# Altium footprint library Mechanical.PcbLib: 50 footprints (part 3 of 4)
Each footprint in its own frame and in the unit in brackets; x right, y up, seen from the top. Pads: shape width x height; smd on the part's side, far side on the other; paste and mask are expansions set on the pad; w line width, h text height; cw(c..) or ccw(c..) is an arc to the next point about the centre after c.
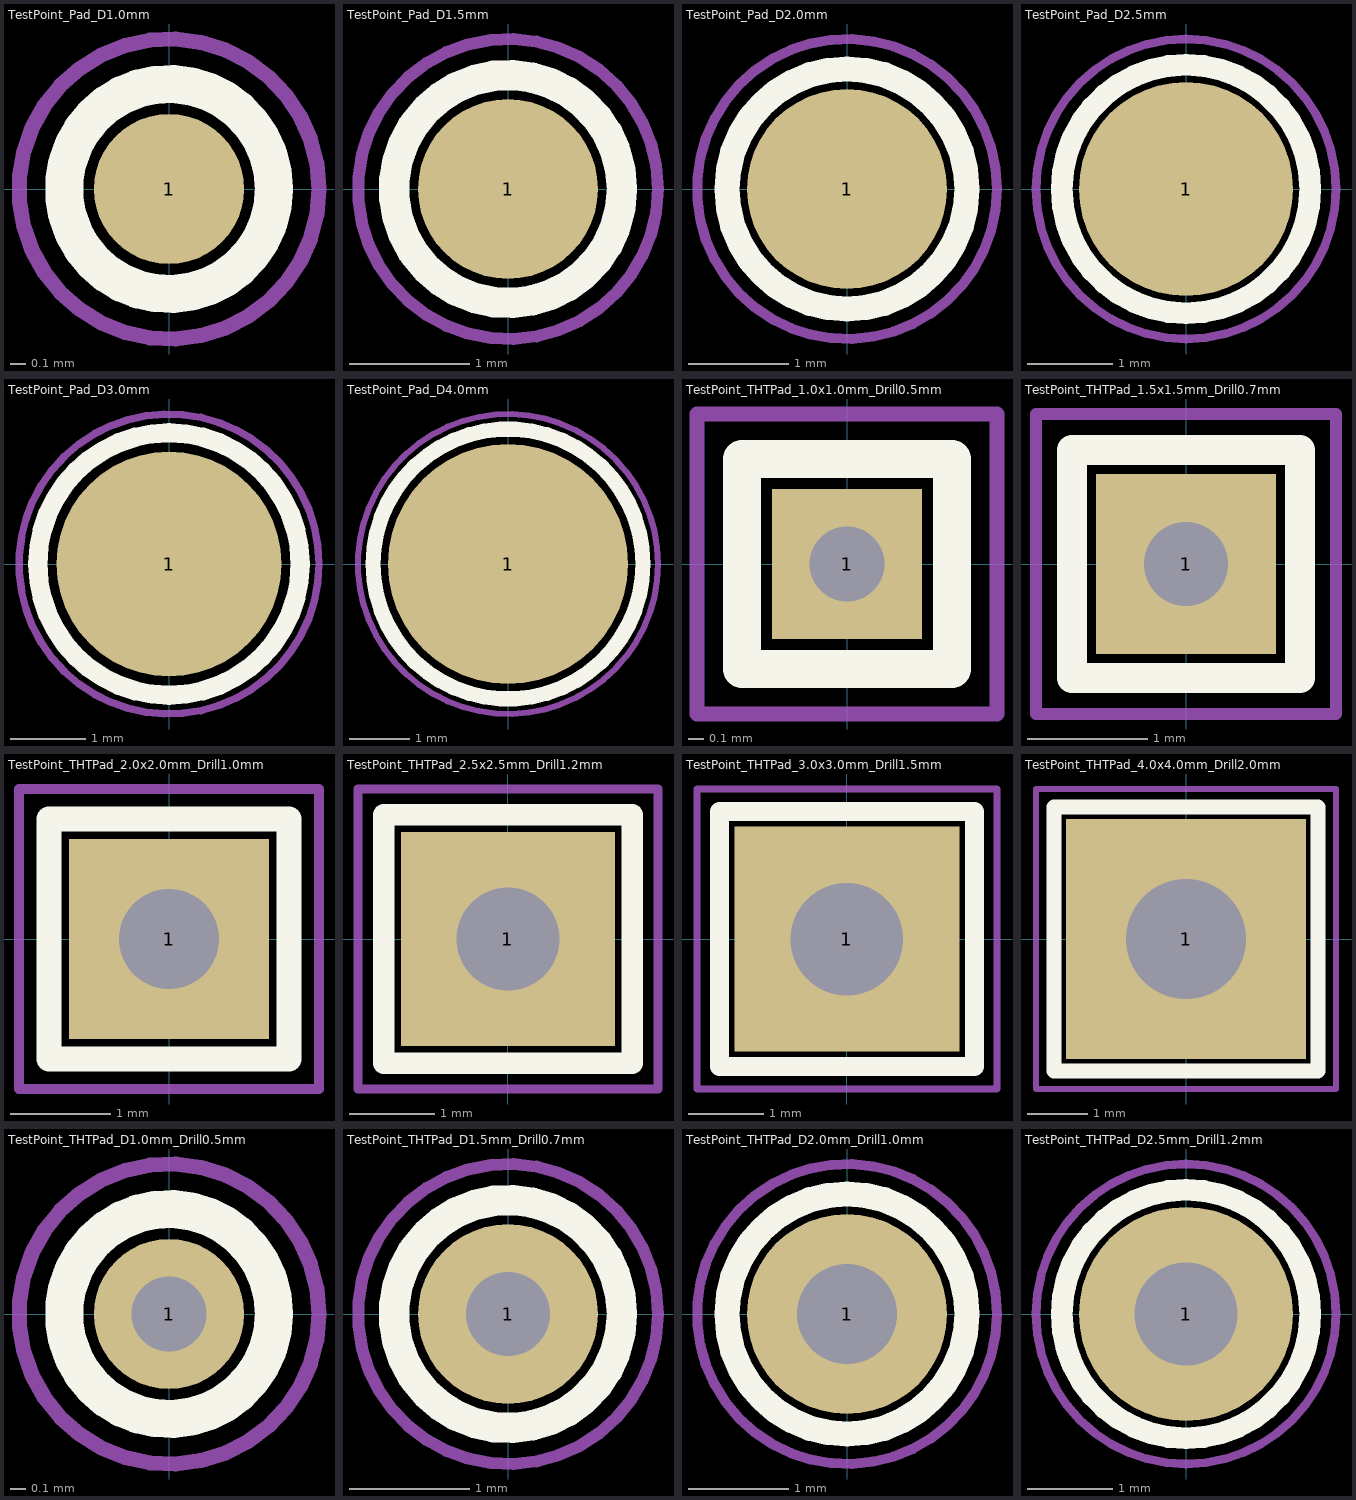
[diagram p2: the footprints below, top view; thin cyan lines are the x and y axes]

## TestPoint_Pad_D1.0mm [mm] "SMD pad as test Point, diameter 1.0mm"
pads (1):
  round 1 smd: 1(0,0)
Top Overlay:
  circle w0.254: c0,0 r0.7
Top Courtyard:
  circle w0.1: c0,0 r1
Top Designator:
  text ".Designator" at -7.63,-0.521 h1.52

## TestPoint_Pad_D1.5mm [mm] "SMD pad as test Point, diameter 1.5mm"
pads (1):
  round 1.5 smd: 1(0,0)
Top Overlay:
  circle w0.254: c0,0 r0.95
Top Courtyard:
  circle w0.1: c0,0 r1.25
Top Designator:
  text ".Designator" at -7.63,-0.521 h1.52

## TestPoint_Pad_D2.0mm [mm] "SMD pad as test Point, diameter 2.0mm"
pads (1):
  round 2 smd: 1(0,0)
Top Overlay:
  circle w0.254: c0,0 r1.2
Top Courtyard:
  circle w0.1: c0,0 r1.5
Top Designator:
  text ".Designator" at -7.63,-0.521 h1.52

## TestPoint_Pad_D2.5mm [mm] "SMD pad as test Point, diameter 2.5mm"
pads (1):
  round 2.5 smd: 1(0,0)
Top Overlay:
  circle w0.254: c0,0 r1.45
Top Courtyard:
  circle w0.1: c0,0 r1.75
Top Designator:
  text ".Designator" at -7.63,-0.521 h1.52

## TestPoint_Pad_D3.0mm [mm] "SMD pad as test Point, diameter 3.0mm"
pads (1):
  round 3 smd: 1(0,0)
Top Overlay:
  circle w0.254: c0,0 r1.75
Top Courtyard:
  circle w0.1: c0,0 r2
Top Designator:
  text ".Designator" at -7.63,-0.521 h1.52

## TestPoint_Pad_D4.0mm [mm] "SMD pad as test Point, diameter 4.0mm"
pads (1):
  round 4 smd: 1(0,0)
Top Overlay:
  circle w0.254: c0,0 r2.25
Top Courtyard:
  circle w0.1: c0,0 r2.5
Top Designator:
  text ".Designator" at -7.63,-0.521 h1.52

## TestPoint_THTPad_1.0x1.0mm_Drill0.5mm [mm] "THT rectangular pad as test Point, square 1.0mm side length, hole diameter 0.5mm"
pads (1):
  rect 1x1 hole 0.5: 1(0,0)
Top Overlay:
  lines w0.254: -0.7,-0.7 0.7,-0.7 0.7,0.7 -0.7,0.7 -0.7,-0.7
Top Courtyard:
  lines w0.1: -1,-1 1,-1 1,1 -1,1 -1,-1
Top Designator:
  text ".Designator" at -7.63,-0.521 h1.52

## TestPoint_THTPad_1.5x1.5mm_Drill0.7mm [mm] "THT rectangular pad as test Point, square 1.5mm side length, hole diameter 0.7mm"
pads (1):
  rect 1.5x1.5 hole 0.7: 1(0,0)
Top Overlay:
  lines w0.254: -0.95,-0.95 0.95,-0.95 0.95,0.95 -0.95,0.95 -0.95,-0.95
Top Courtyard:
  lines w0.1: -1.25,-1.25 1.25,-1.25 1.25,1.25 -1.25,1.25 -1.25,-1.25
Top Designator:
  text ".Designator" at -7.63,-0.521 h1.52

## TestPoint_THTPad_2.0x2.0mm_Drill1.0mm [mm] "THT rectangular pad as test Point, square 2.0mm_Drill1.0mm  side length, hole diameter 1.0mm"
pads (1):
  rect 2x2 hole 1: 1(0,0)
Top Overlay:
  lines w0.254: -1.2,-1.2 1.2,-1.2 1.2,1.2 -1.2,1.2 -1.2,-1.2
Top Courtyard:
  lines w0.1: -1.5,-1.5 1.5,-1.5 1.5,1.5 -1.5,1.5 -1.5,-1.5
Top Designator:
  text ".Designator" at -7.63,-0.521 h1.52

## TestPoint_THTPad_2.5x2.5mm_Drill1.2mm [mm] "THT rectangular pad as test Point, square 2.5mm side length, hole diameter 1.2mm"
pads (1):
  rect 2.5x2.5 hole 1.2: 1(0,0)
Top Overlay:
  lines w0.254: -1.45,-1.45 1.45,-1.45 1.45,1.45 -1.45,1.45 -1.45,-1.45
Top Courtyard:
  lines w0.1: -1.75,-1.75 1.75,-1.75 1.75,1.75 -1.75,1.75 -1.75,-1.75
Top Designator:
  text ".Designator" at -7.63,-0.521 h1.52

## TestPoint_THTPad_3.0x3.0mm_Drill1.5mm [mm] "THT rectangular pad as test Point, square 3.0mm side length, hole diameter 1.5mm"
pads (1):
  rect 3x3 hole 1.5: 1(0,0)
Top Overlay:
  lines w0.254: -1.7,-1.7 1.7,-1.7 1.7,1.7 -1.7,1.7 -1.7,-1.7
Top Courtyard:
  lines w0.1: -2,-2 2,-2 2,2 -2,2 -2,-2
Top Designator:
  text ".Designator" at -7.63,-0.521 h1.52

## TestPoint_THTPad_4.0x4.0mm_Drill2.0mm [mm] "THT rectangular pad as test Point, square 4.0mm  side length, hole diameter 2.0mm"
pads (1):
  rect 4x4 hole 2: 1(0,0)
Top Overlay:
  lines w0.254: -2.2,-2.2 2.2,-2.2 2.2,2.2 -2.2,2.2 -2.2,-2.2
Top Courtyard:
  lines w0.1: -2.5,-2.5 2.5,-2.5 2.5,2.5 -2.5,2.5 -2.5,-2.5
Top Designator:
  text ".Designator" at -7.63,-0.521 h1.52

## TestPoint_THTPad_D1.0mm_Drill0.5mm [mm] "THT pad as test Point, diameter 1.0mm, hole diameter 0.5mm"
pads (1):
  round 1 hole 0.5: 1(0,0)
Top Overlay:
  circle w0.254: c0,0 r0.7
Top Courtyard:
  circle w0.1: c0,0 r1
Top Designator:
  text ".Designator" at -7.63,-0.521 h1.52

## TestPoint_THTPad_D1.5mm_Drill0.7mm [mm] "THT pad as test Point, diameter 1.5mm, hole diameter 0.7mm"
pads (1):
  round 1.5 hole 0.7: 1(0,0)
Top Overlay:
  circle w0.254: c0,0 r0.95
Top Courtyard:
  circle w0.1: c0,0 r1.25
Top Designator:
  text ".Designator" at -7.63,-0.521 h1.52

## TestPoint_THTPad_D2.0mm_Drill1.0mm [mm] "THT pad as test Point, diameter 2.0mm, hole diameter 1.0mm"
pads (1):
  round 2 hole 1: 1(0,0)
Top Overlay:
  circle w0.254: c0,0 r1.2
Top Courtyard:
  circle w0.1: c0,0 r1.5
Top Designator:
  text ".Designator" at -7.63,-0.521 h1.52

## TestPoint_THTPad_D2.5mm_Drill1.2mm [mm] "THT pad as test Point, diameter 2.5mm, hole diameter 1.2mm"
pads (1):
  round 2.5 hole 1.2: 1(0,0)
Top Overlay:
  circle w0.254: c0,0 r1.45
Top Courtyard:
  circle w0.1: c0,0 r1.75
Top Designator:
  text ".Designator" at -7.63,-0.521 h1.52